# Altium footprint library RayPCB20210502.PcbLib: 222 footprints (part 7 of 14)
Each footprint in its own frame and in the unit in brackets; x right, y up, seen from the top. Pads: shape width x height; smd on the part's side, far side on the other; paste and mask are expansions set on the pad; w line width, h text height; cw(c..) or ccw(c..) is an arc to the next point about the centre after c.
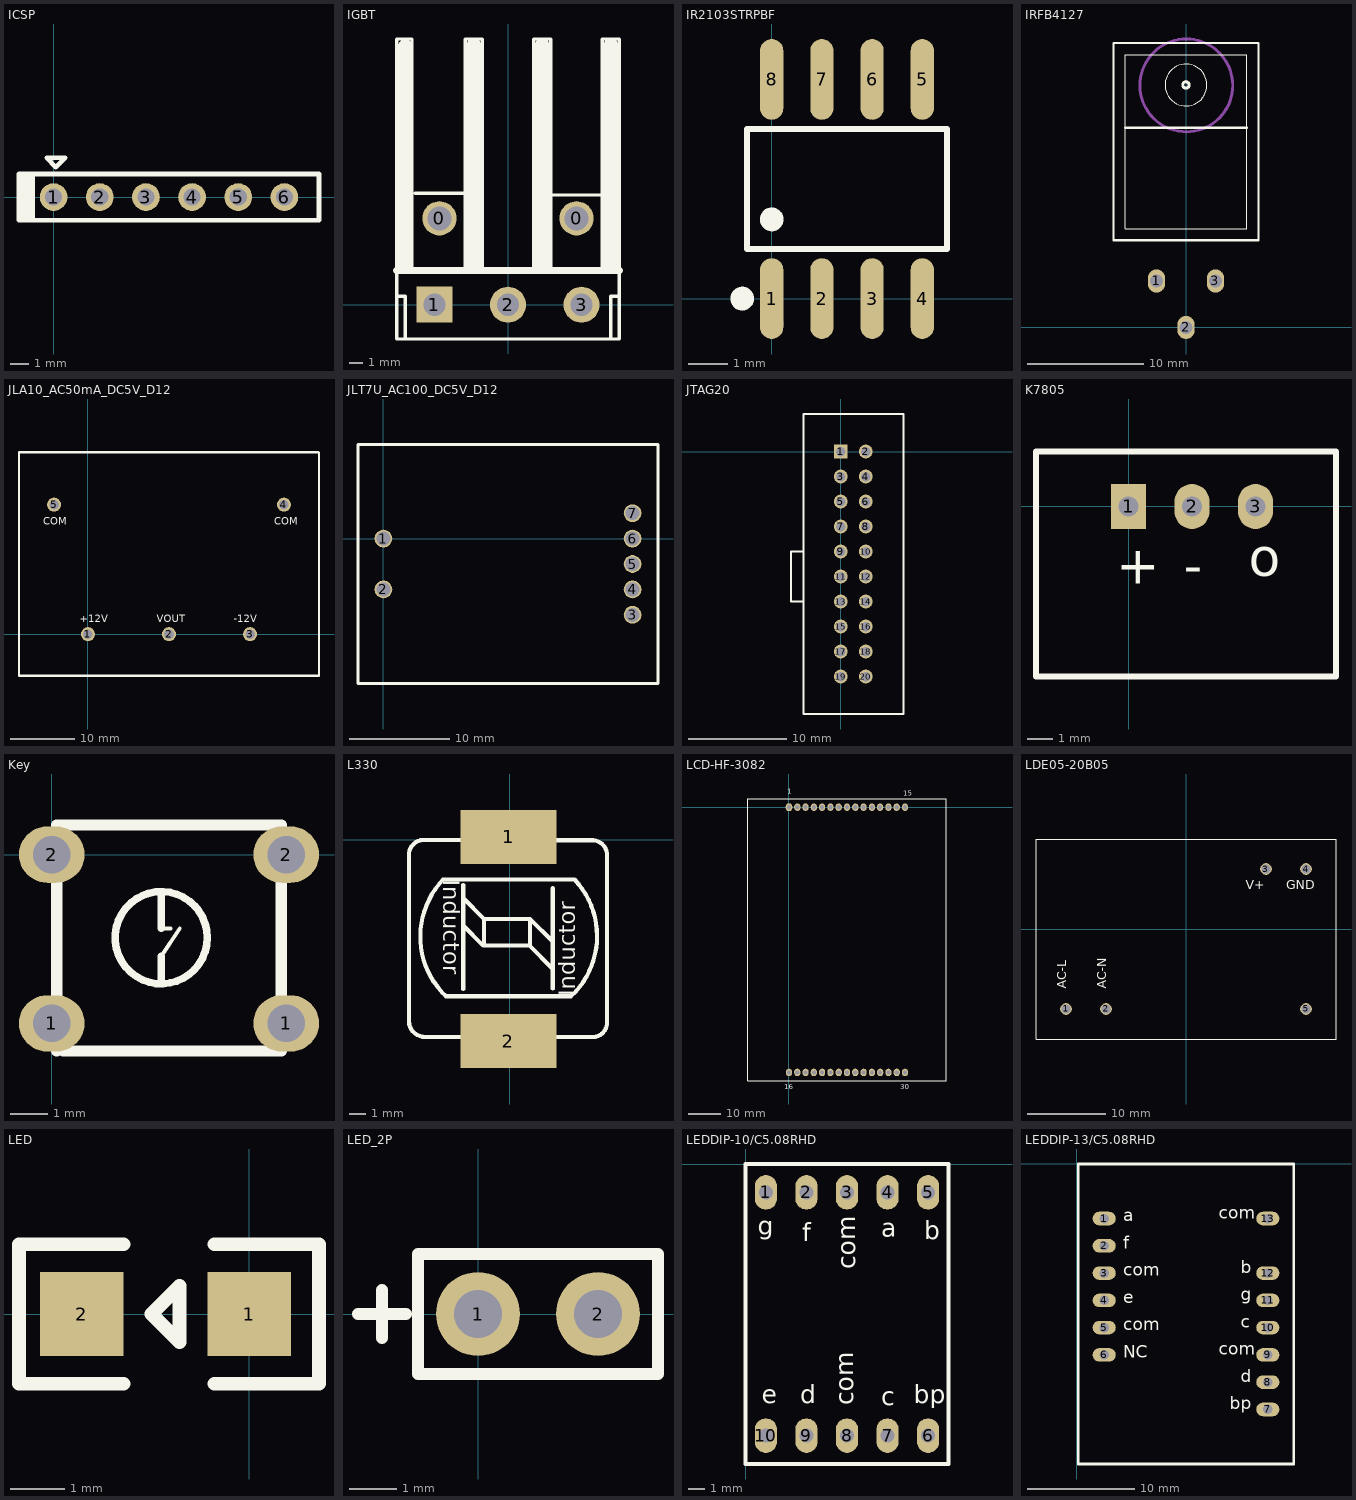
[diagram p6: the footprints below, top view; thin cyan lines are the x and y axes]

## ICSP [mil]
pads (6):
  round 60 hole 37: 1(0,0) 2(100,0) 3(200,0) 4(300,0) 5(400,0) 6(500,0)
Top Overlay:
  lines w10: -75,-20 -45,-50 -45,50 ; -75,25 -50,50 -50,-50 ; -67.45,32.55 -67.45,-27.55 -65,-30 ; -65,-50 -65,50 ; -65,-40 -55,-50 ; -62.77,37.23 -62.77,-32.23 -61.21,-33.79 ; -55,-30 -55,35 ; -75,-50 575,-50 575,50 -75,50 -75,-50 ; -15,85 25,85 5,65 -15,85

## IGBT [mil]
pads (5):
  round 100 hole 70: 0(-200,251.97) 0(200,251.97)
  rect 105x105 hole 65: 1(-214.57,0)
  round 105 hole 65: 2(0,0) 3(214.57,0)
Top Overlay:
  lines w10: -325,25 -300,25 -300,-100 ; -280,100 -280,775 -325,775 -325,100 -325,-100 325,-100 325,100 325,775 275,775 275,105 280,100 ; -270,325 -125,325 ; -175,100 75,100 75,775 125,775 125,110 ; -125,100 -125,775 -75,775 -75,100 ; 125,320 275,320 ; 300,-100 300,25 325,25
  lines w20: -325,100 0,100 325,100
  lines w40: -300,115 -300,755 ; -100,115 -100,760 ; 100,110 100,760 ; 300,115 300,760

## IR2103STRPBF [mm]
pads (8):
  oval 0.588x2.045 smd: 1(0,0) 2(1.27,0) 3(2.54,0) 4(3.81,0) 5(3.81,5.545) 6(2.54,5.545) 7(1.27,5.545) 8(0,5.545)
Top Overlay:
  circle w0.3: c-0.747,0 r0.15
  circle w0.3: c0,2.003 r0.15
  lines w0.152: -0.621,1.251 4.431,1.251 4.431,4.294 -0.621,4.294 -0.621,1.251
Mechanical 15:
  circle w0.3: c0,-0.628 r0.15

## IRFB4127 [mm]
pads (3):
  oval 1.5x2 hole 1.1: 1(-2.54,4) 2(0,0) 3(2.54,4)
Top Overlay:
  circle w0.1: c0,20.885 r1.8
  circle w0.254: c0,20.885 r0.281
  lines w0.1: -5.25,8.5 0,8.5 5.25,8.5 5.25,23.5 -5.25,23.5 -5.25,8.5
  lines w0.2: -5.25,17.2 0,17.2 5.25,17.2 ; -6.25,7.5 -6.25,23.5 -6.25,24.5 5.25,24.5 6.25,24.5 6.25,8.5 6.25,7.5 0,7.5 -6.25,7.5
Bottom Overlay:
  circle w0.254: c0,20.885 r0.281
  circle w0.1: c0,20.885 r1.8
  lines w0.1: -5.25,8.5 -5.25,23.5 5.25,23.5 5.25,8.5 0,8.5 -5.25,8.5
  lines w0.2: -5.25,17.2 0,17.2 5.25,17.2 ; -6.25,7.5 0,7.5 6.25,7.5 6.25,8.5 6.25,24.5 5.25,24.5 -6.25,24.5 -6.25,23.5 -6.25,7.5
Mechanical 1:
  circle w0.254: c0.028,20.846 r4

## JLA10_AC50mA_DC5V_D12 [mm]
pads (5):
  round 2.2 hole 1.5: 1(0,0) 2(12.7,0) 3(25.4,0) 4(30.7,20.3) 5(-5.3,20.3)
Top Overlay:
  lines w0.381: -10.8,28.5 36.125,28.5 36.2,28.425 36.2,-6.5 -10.8,-6.5 -10.8,28.49 -10.795,28.495
  text "+12V" at -1.27,1.905 h1.14
  text "-12V" at 22.86,1.905 h1.14
  text "VOUT" at 10.795,1.905 h1.14
  text "COM" at -6.985,17.145 h1.14
  text "COM" at 29.21,17.145 h1.14

## JLT7U_AC100_DC5V_D12 [mil]
pads (7):
  round 70 hole 55: 1(0,0) 2(0,-200) 3(980,-300) 4(980,-200) 5(980,-100) 6(980,0) 7(980,100)
Top Overlay:
  lines w10: -100,-570 1080,-570 1080,370 -100,370 -100,-570

## JTAG20 [mil] "JTAG-20PIN"
pads (20):
  rect 55x55 hole 38: 1(0,0)
  round 55 hole 38: 2(100,0) 3(0,-100) 4(100,-100) 5(0,-200) 6(100,-200) 7(0,-300) 8(100,-300) 9(0,-400) 10(100,-400) 11(0,-500) 12(100,-500) 13(0,-600) 14(100,-600) 15(0,-700) 16(100,-700) 17(0,-800) 18(100,-800) 19(0,-900) 20(100,-900)
Top Overlay:
  lines w8: -150,-600 -200,-600 -200,-400 -150,-400 ; -150,-1050 250,-1050 250,150 -150,150 -150,-1050

## K7805 [mm]
pads (3):
  rect 1.4x1.8 hole 0.8: 1(0,0)
  oval 1.4x1.8 hole 0.8: 2(2.54,0) 3(5.08,0)
Top Overlay:
  lines w0.254: -3.7,-6.8 8.3,-6.8 8.3,2.2 -3.7,2.2 -3.7,-6.8
  text "+" at -0.5,-3.1 h1.52
  text "-" at 2.2,-3.1 h1.52
  text "o" at 4.8,-2.8 h1.52

## Key [mil]
pads (4):
  oval 70x60 hole 40: 1(0,-180) 1(250,-180) 2(0,0) 2(250,0)
Top Overlay:
  circle w8: c116.73,-88.61 r49.21
  lines w4: 116.73,-108.29 136.42,-78.76 ; 116.73,-78.76 126.58,-78.76
  lines w8: 116.73,-137.82 116.73,-108.29 ; 116.73,-78.77 116.73,-39.39
  lines w12: 5.32,-209.47 5.32,31.47 244.69,31.47 244.69,-209.47 12.21,-209.47

## L330 [mm] "Inductor 33uH"
pads (2):
  rect 5.857x3.308 smd: 1(-0.064,0.16) 2(-0.073,-12.31)
Top Overlay:
  lines w0.254: -3.953,-9.51 -3.893,-9.57 ; -2.903,-0.02 -5.274,-0.02 ccw(c-5.229,-0.945) -6.154,-0.99 -6.154,-11.1 ccw(c-5.169,-11.075) -5.144,-12.06 -2.893,-12.06 -2.883,-12.05 ; -2.833,-9.13 -2.833,-2.77 ; -2.833,-5.26 -1.613,-6.48 1.206,-6.48 2.636,-7.91 2.636,-8.03 ; -2.833,-3.58 -1.563,-4.85 ; -1.563,-6.43 -1.563,-4.85 ; 1.246,-6.44 1.246,-4.85 ; 2.636,-9.09 2.636,-2.97 ; 2.636,-6.24 1.246,-4.85 ; 2.806,-12.07 5.126,-12.07 ccw(c5.066,-11.19) 5.946,-11.13 ; 2.827,-0.04 5.086,-0.04 cw(c5.036,-0.96) 5.956,-1.01 5.957,-11.12 ; -3.893,-9.57 cw(c-0.418,-5.925) -4.064,-2.45 3.976,-2.45 cw(c0.306,-5.9) 3.757,-9.57 -3.893,-9.57 ; -1.563,-4.85 1.246,-4.85
  text "Inductor" at -4.063,-2.45 h1
  text "Inductor" at 4.006,-9.57 h1

## LCD-HF-3082 [mil] "LCD Seg DISPLAY"
pads (30):
  oval 80x95 hole 50: 1(0,0)
  oval 75x90 hole 50: 2(100,0) 3(200,0) 4(300,0) 5(400,0) 6(500,0) 7(600,0) 8(700,0) 9(800,0) 10(900,0) 11(1000,0) 12(1100,0) 13(1200,0) 14(1300,0) 15(1400,0) 16(0,-3200) 17(100,-3200) 18(200,-3200) 19(300,-3200) 20(400,-3200) 21(500,-3200) 22(600,-3200) 23(700,-3200) 24(800,-3200) 25(900,-3200) 26(1000,-3200) 27(1100,-3200) 28(1200,-3200) 29(1300,-3200) 30(1400,-3200)
Top Overlay:
  lines w10: -500,-3300 -500,100 1900,100 1900,-3300 -500,-3300
  text "30" at 1340,-3400 h60
  text "16" at -60,-3400 h60
  text "15" at 1380,140 h60
  text "1" at -20,160 h60

## LDE05-20B05 [mm]
pads (5):
  round 1.5 hole 1.2: 1(-15.24,-10.16) 2(-10.16,-10.16) 3(10.16,7.62) 4(15.24,7.62) 5(15.24,-10.16)
Top Overlay:
  lines w0.127: -19.05,-13.97 19.05,-13.97 19.05,11.43 -19.05,11.43 -19.05,-13.97
  text "AC-N" at -10.16,-7.62 h1.14
  text "AC-L" at -15.24,-7.62 h1.14
  text "V+" at 7.62,5.08 h1.14
  text "GND" at 12.7,5.08 h1.14

## LED [mil]
pads (2):
  rect 60x60 smd: 1(0,0) 2(-120,0)
Top Overlay:
  lines w10: -90,-50 -165,-50 -165,50 -90,50 ; -25,-50 50,-50 50,50 -25,50 ; -70,0 -50,-20 -50,20 -70,0

## LED_2P [mil] "100mil"
pads (2):
  round 70 hole 40: 1(0,0) 2(100,0)
Top Overlay:
  lines w10: -100,0 -60,0 ; -80,-20 -80,20 ; -50,-50 -50,50 150,50 150,-50 -50,-50

## LEDDIP-10/C5.08RHD [mil] "SmallOne"
pads (10):
  oval 55x85 hole 35: 1(50,-70) 2(150,-70) 3(250,-70) 4(350,-70) 5(450,-70) 6(450,-670) 7(350,-670) 8(250,-670) 9(150,-670) 10(50,-670)
Top Overlay:
  lines w10: 0,-740 0,0 500,0 500,-740 0,-740
  text "g" at 30,-175 h45
  text "f" at 140,-190 h45
  text "com" at 270,-260 h45
  text "a" at 335,-180 h45
  text "b" at 440,-185 h45
  text "bp" at 415,-590 h45
  text "c" at 335,-595 h45
  text "com" at 265,-595 h45
  text "d" at 135,-590 h45
  text "e" at 40,-590 h45

## LEDDIP-13/C5.08RHD [mil] "LargerONE"
pads (13):
  oval 85x50 hole 35: 1(100,-200) 2(100,-300) 3(100,-400) 4(100,-500) 5(100,-600) 6(100,-700) 7(700,-900) 8(700,-800) 9(700,-700) 10(700,-600) 11(700,-500) 12(700,-400) 13(700,-200)
Top Overlay:
  lines w10: 5,-1100 795,-1100 795,0 5,0 5,-1100
  text "a" at 170,-210 h45
  text "f" at 170,-310 h45
  text "com" at 170,-410 h45
  text "e" at 170,-510 h45
  text "com" at 170,-610 h45
  text "NC" at 170,-710 h45
  text "bp" at 560,-900 h45
  text "d" at 600,-800 h45
  text "com" at 520,-700 h45
  text "c" at 600,-600 h45
  text "g" at 600,-500 h45
  text "b" at 600,-400 h45
  text "com" at 520,-200 h45